# EAGLE library part B12B-PUDSS-1 (library con-jst-pud)
JST connector, PUD series, 2.0mm spacing, crimp style, wire-to-board, 12 pin, top entry (with boss)
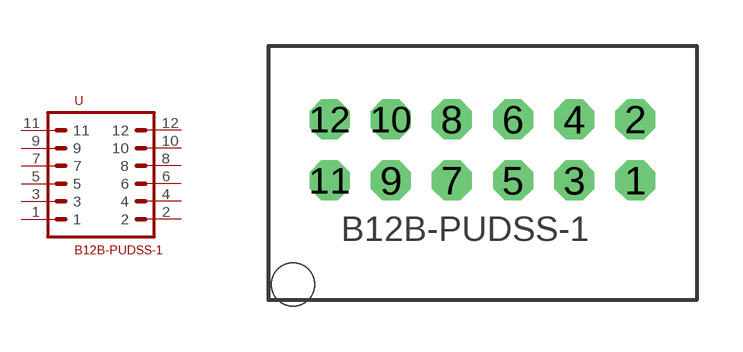
[diagram p10: symbol with the pads of PUD_12_PIN_TOP_ENTRY; footprint PUD_12_PIN_TOP_ENTRY]

Designator prefix -

## B12B-PUDSS-1 (DIGIKEY: 455-2501-ND; MF: JST; MPN: B12B-PUDSS-1)  [PUD_12_PIN_TOP_ENTRY]
1  1
2  2
3  3
4  4
5  5
6  6
7  7
8  8
9  9
10  10
11  11
12  12

## Footprint PUD_12_PIN_TOP_ENTRY (pad centres in mm)
drill 0.8 octagon: 1 5,0; 2 5,2; 3 3,0; 4 3,2; 5 1,0; 6 1,2; 7 -1,0; 8 -1,2; 9 -3,0; 10 -3,2; 11 -5,0; 12 -5,2
hole 1.4 at -6.2,-3.4